# Altium footprint library THRMC1608X95N.PcbLib: 1 footprints
Each footprint in its own frame and in the unit in brackets; x right, y up, seen from the top. Pads: shape width x height; smd on the part's side, far side on the other; paste and mask are expansions set on the pad; w line width, h text height; cw(c..) or ccw(c..) is an arc to the next point about the centre after c.
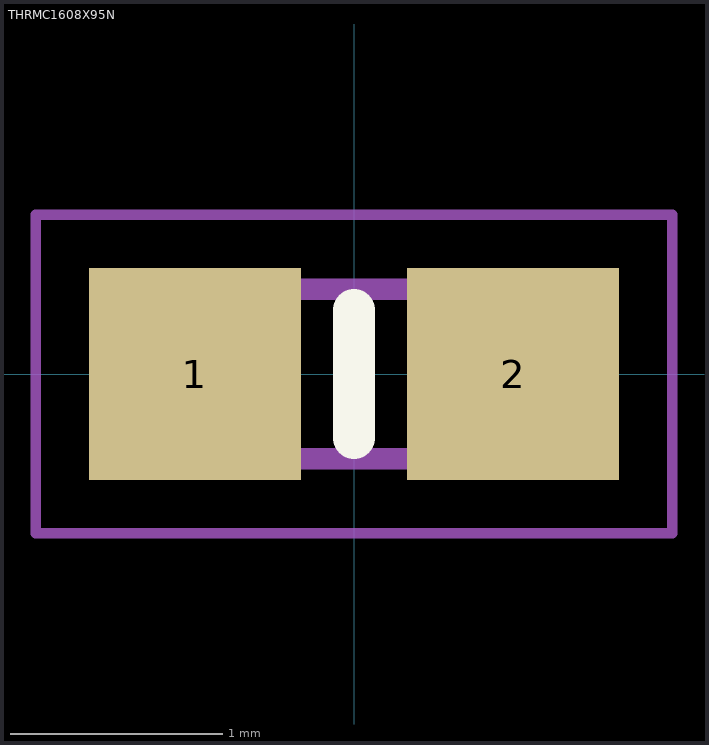
[diagram p0: the footprint, top view; thin cyan lines are the x and y axes]

## THRMC1608X95N [mm]
pads (2):
  rrect0% 1x1 smd: 1(-0.75,0) 2(0.75,0)
L26-Silk Screen Top (Multiple PADS layers...):
  lines w0.2: 0,-0.3 0,0.3
L15 (Multiple PADS layers...):
  lines w0.1: -0.8,-0.4 -0.8,0.4 0.8,0.4 0.8,-0.4 -0.8,-0.4
L20:
  lines w0.05: -1.5,-0.75 -1.5,0.75 1.5,0.75 1.5,-0.75 -1.5,-0.75
3D body "NCP18XH103F03RB.stp": height 0.8, standoff 0, extent -0.8,-0.4 0.8,0.4